# Altium integrated library Linear Technology PMIC-Switching Reg LTC1174-LTC3901.IntLib: 2647 symbols (part 147 of 310)
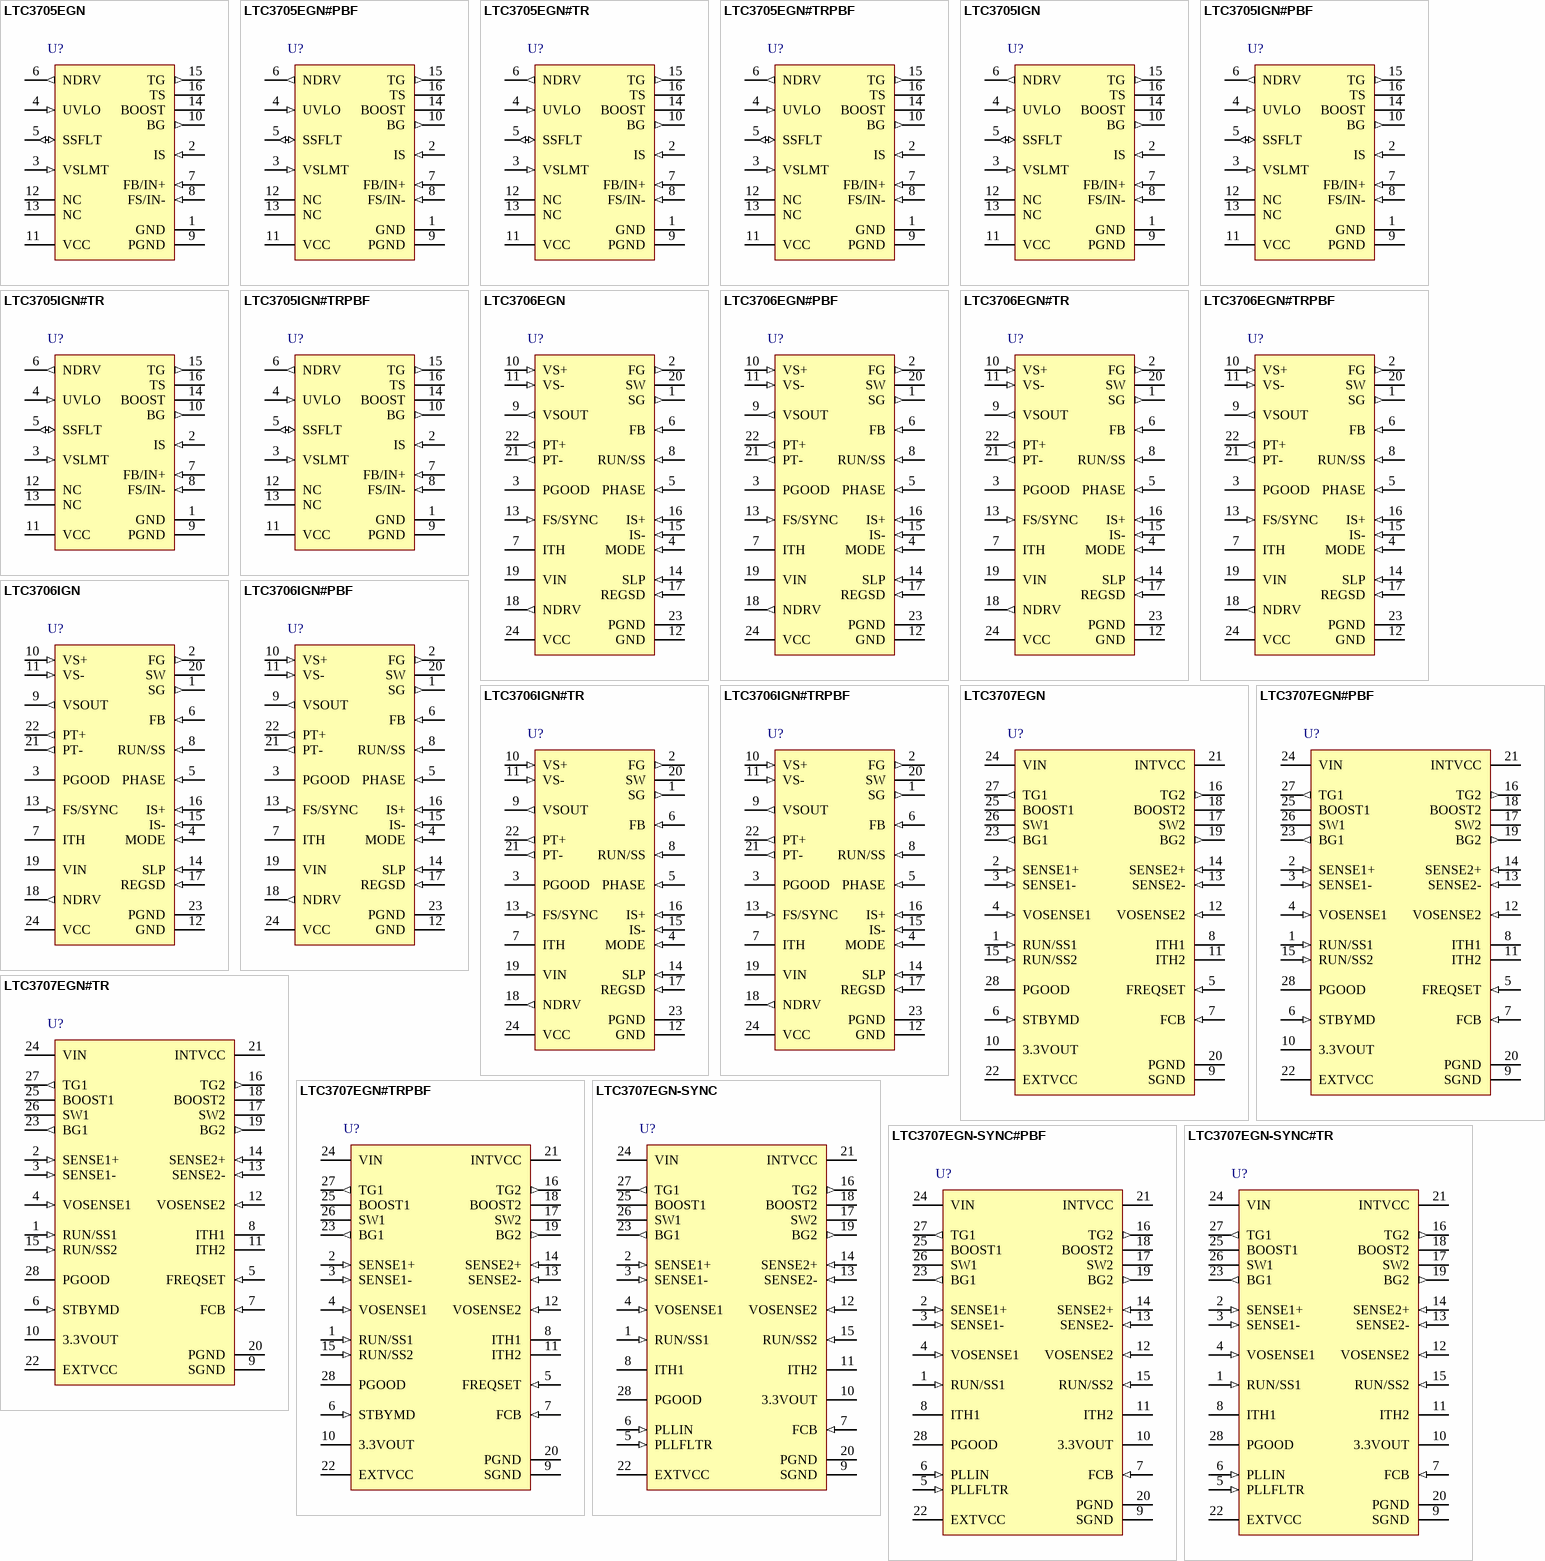
[diagram p298: symbols LTC3705EGN to LTC3707EGN-SYNC#TR]

## LTC3706EGN#TRPBF
designator U?
Secondary-Side Synchronous Forward Controller with Polyphase Capability, 24-pin SOP (GN-24), -40 to 85 degC, Pb-Free, Tape and Reel; Manufacturer: Linear Technology; PartNumber: LTC3706EGN#TRPBF; Number of Outputs: 1; PackageReference: GN24; PackageDescription: 24-Pin Plastic SSOP , Body 8.5 x 3.9 mm, Pitch 0.635 mm; Supplier 1: Digi-Key; Supplier Part Number 1: LTC3706EGN#TRPBF-ND; RoHS: TRUE
footprint LT-GN-24_N (SOP, 24-Leads, Body 8.7x4mm, Pitch 0.635mm, IPC Medium Density)
footprint LT-GN-24_L (SOP, 24-Leads, Body 8.7x4mm, Pitch 0.635mm, IPC High Density)
footprint LT-GN-24_M (SOP, 24-Leads, Body 8.7x4mm, Pitch 0.635mm, IPC Low Density)
pins: 1 SG (out) "Gate Drive for the “Synchronous” MOSFET.", 2 FG (out) "Gate Drive for the “Forward” MOSFET.", 3 PGOOD (oc) "Open-Drain Power Good Output. The FB pin is monitored to ensure that the output is in regulation. When the output is not in regulation, the PGOOD pin is pulled low.", 4 MODE (in) "Tie to either GND or VCC to set the maximum duty cycle at either 50% or 75% respectively. Tie to ground through either a 200k or 100k resistor (50% or 75% maximum duty cycle) to disable pulse encoding. In this mode, normal (See Datasheet)", 5 PHASE (in) "Control Input to the Phase Selector. This pin determines the phasing of the controller CLK relative to the synchronizing signal at the FS/SYNC pin.", 6 FB (in) "The Inverting Input of the Main Loop Error Amplifier.", 7 ITH "The Output of the Main Loop Error Amplifier. Place compensation components between the ITH pin and GND.", 8 RUN/SS (in) "Combination Run Control and Soft-Start Inputs. A capacitor to ground sets the ramp time of the output voltage. Holding this pin below 0.4V causes the IC to shut down all internal circuitry.", 9 VSOUT (out) "VSOUT is the output of a precision, unity-gain differential amplifier. Tie VS+ and  VS- to the output of the main DC/DC converter to achieve true remote differential sensing. This allows DCR error effects to be minimized.", 10 VS+ (in) "VSOUT is the output of a precision, unity-gain differential amplifier. Tie VS+ and  VS- to the output of the main DC/DC converter to achieve true remote differential sensing. This allows DCR error effects to be minimized.", 11 VS- (in) "VSOUT is the output of a precision, unity-gain differential amplifier. Tie VS+ and  VS- to the output of the main DC/DC converter to achieve true remote differential sensing. This allows DCR error effects to be minimized.", 12 GND (power) "Signal Ground.", 13 FS/SYNC (in) "Combination Frequency Set and SYNC pin. Tie to GND or VCC to run at 200kHz and 300kHz respectively. Place a single resistor to ground at this pin to set the frequency between 100kHz and 500kHz. To synchronize, drive this pin (See Datasheet)", 14 SLP (in) "Slope Compensation Input. Place a single resistor to ground to set the desired amount of slope compensation.", 15 IS- (in) "Negative Input to the Current Sense Circuit. When using current sense transformers, this pin may be tied to VCC for single-ended sensing with a 1.28V maximum current trip level.", 16 IS+ (in) "Positive Input to the Current Sense Circuit. Connect to the positive end of a current sense resistor or to the output of a current sense transformer.", 17 REGSD (in) "This pin is used to prevent overheating of the external linear regulator pass device that generates the VCC supply voltage from the VIN voltage. A current proportional to the voltage across the external pass device flows out (See Datasheet)", 18 NDRV (out) "Drive Output for the External Pass Device of the VCC Linear Regulator. Connect to the base (NPN) or gate (NMOS) of an external N-type device.", 19 VIN (power) "Connect to a higher voltage bias supply, typically the output of a peak detected bias winding. When not used, tie together with the VCC and NDRV pins.", 20 SW "Connect to the drain of the “synchronous” MOSFET. This input is used for adaptive shoot-through prevention and leading edge blanking.", 21 PT- (out) "Pulse Transformer Driver Outputs. For most applications, these connect to a pulse transformer (with a series DC blocking capacitor). The PWM information is multiplexed together with DC power and sent through a single pulse (See Datasheet)", 22 PT+ (out) "Pulse Transformer Driver Outputs. For most applications, these connect to a pulse transformer (with a series DC blocking capacitor). The PWM information is multiplexed together with DC power and sent through a single pulse (See Datasheet)", 23 PGND (power) "Gate Driver Ground Pin.", 24 VCC (power) "Main VCC Input for all Driver and Control Circuitry."